# Altium footprint library 74HC595BZX.PcbLib: 1 footprints
Each footprint in its own frame and in the unit in brackets; x right, y up, seen from the top. Pads: shape width x height; smd on the part's side, far side on the other; paste and mask are expansions set on the pad; w line width, h text height; cw(c..) or ccw(c..) is an arc to the next point about the centre after c.
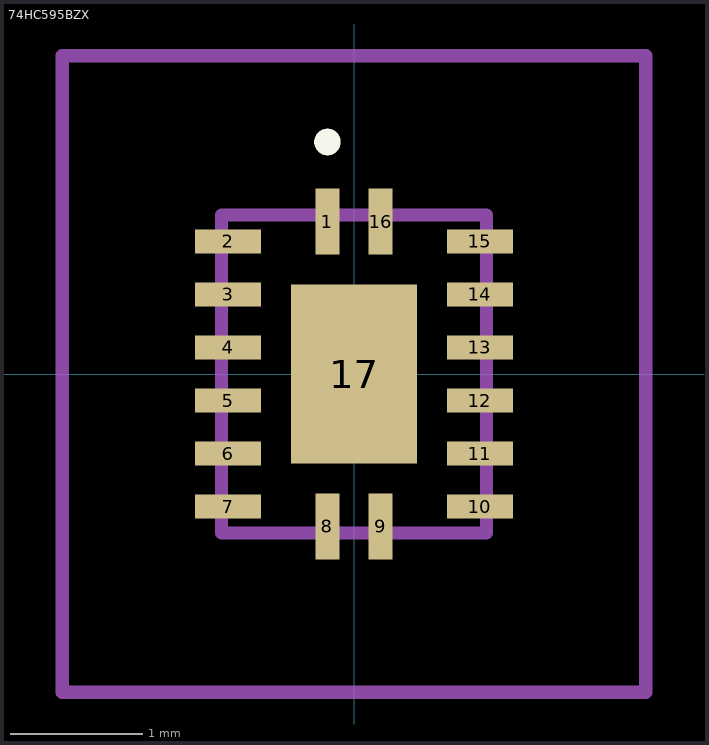
[diagram p0: the footprint, top view; thin cyan lines are the x and y axes]

## 74HC595BZX [mm]
pads (17):
  rect 0.18x0.5 smd: 1(-0.2,1.15) 8(-0.2,-1.15) 9(0.2,-1.15) 16(0.2,1.15)
  rect 0.5x0.18 smd: 2(-0.95,1) 3(-0.95,0.6) 4(-0.95,0.2) 5(-0.95,-0.2) 6(-0.95,-0.6) 7(-0.95,-1) 10(0.95,-1) 11(0.95,-0.6) 12(0.95,-0.2) 13(0.95,0.2) 14(0.95,0.6) 15(0.95,1)
  rect 0.95x1.35 smd: 17(0,0)
Top Overlay:
  lines w0.1: -0.2,1.7 -0.2,1.7 ; -0.2,1.7 ccw(c-0.2,1.75) -0.2,1.8 ; -0.2,1.7 cw(c-0.2,1.75) -0.2,1.8 ; -0.2,1.8 -0.2,1.8
Mechanical 15:
  lines w0.1: -1,-1.2 1,-1.2 1,1.2 -1,1.2 -1,-1.2
Mechanical 20:
  lines w0.1: -2.2,-2.4 2.2,-2.4 2.2,2.4 -2.2,2.4 -2.2,-2.4